# Altium integrated library ECS-160-20-5PVX (1).IntLib: 1 symbol
Pins are listed as number, name and electrical type; pins without a type are passive.

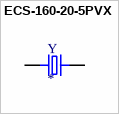
[diagram p0: symbol ECS-160-20-5PVX]

## ECS-160-20-5PVX
designator Y
16MHz Â±30ppm Crystal 20pF 50 Ohms HC-49/US; MF: ECS Inc.; MP: ECS-160-20-5PVX; Availability: Unavailable; SnapEDA_Link: https://www.snapeda.com/parts/ECS-160-20-5PVX/ECS%20Inc./view-part/2721556/?ref=snap; Package: HC49/US ECS International; Value: *; Price: None
footprint XTAL_ECS-160-20-5PVX
pins: 1, 2